# EAGLE library part ANTAP281MXIB (library custom-parts)
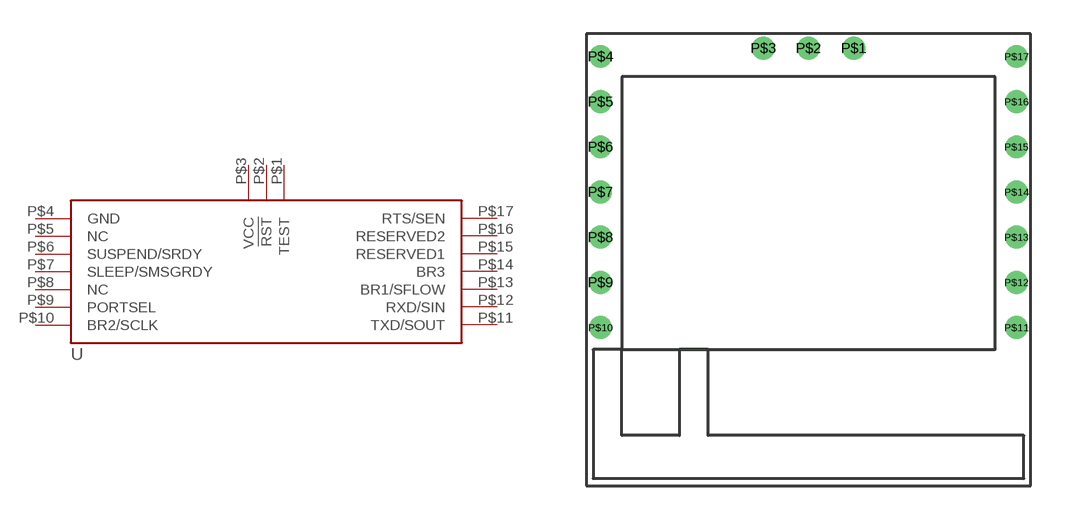
[diagram p2: symbol with the pads of ANTAP281MXIB; footprint ANTAP281MXIB]

Designator prefix -

## ANTAP281MXIB  [ANTAP281MXIB]
P$1  TEST
P$2  !RST!
P$3  VCC
P$4  GND
P$5  NC
P$6  SUSPEND/SRDY
P$7  SLEEP/SMSGRDY
P$8  NC
P$9  PORTSEL
P$10  BR2/SCLK
P$11  TXD/SOUT
P$12  RXD/SIN
P$13  BR1/SFLOW
P$14  BR3
P$15  RESERVED1
P$16  RESERVED2
P$17  RTS/SEN

## Footprint ANTAP281MXIB (pad centres in mm)
drill 0.5 pad 0.9: P$1 2,-0.63; P$2 0,-0.63; P$3 -2,-0.63; P$4 -9.2,-1; P$5 -9.2,-3; P$6 -9.2,-5; P$7 -9.2,-7; P$8 -9.2,-9; P$9 -9.2,-11; P$10 -9.2,-13; P$11 9.2,-13; P$12 9.2,-11; P$13 9.2,-9; P$14 9.2,-7; P$15 9.2,-5; P$16 9.2,-3; P$17 9.2,-1